# EAGLE library part PIC18F4620 (library My Library)
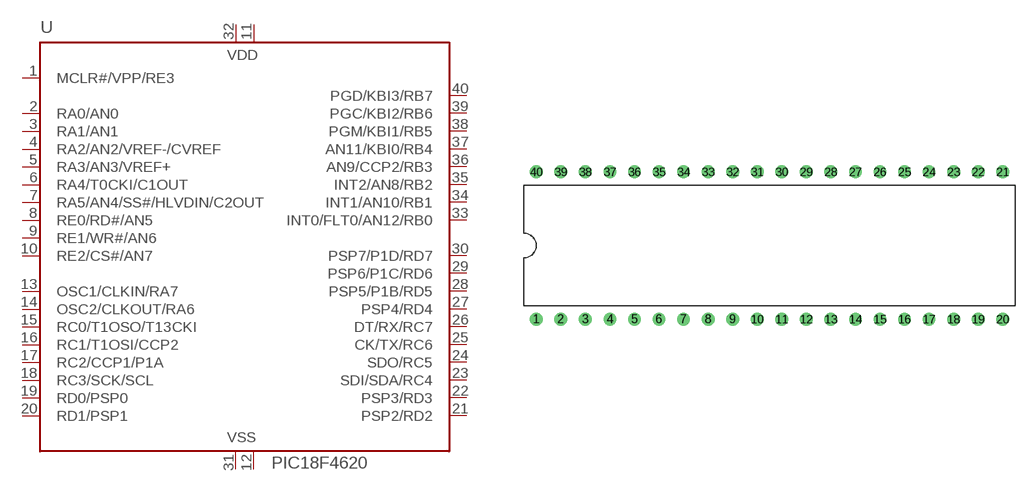
[diagram p4: symbol with the pads of DIP40; footprint DIP40]

Designator prefix -

## PIC18F4620  [DIP40]
1  MCLR#/VPP/RE3  in
2  RA0/AN0
3  RA1/AN1
4  RA2/AN2/VREF-/CVREF
5  RA3/AN3/VREF+
6  RA4/T0CKI/C1OUT
7  RA5/AN4/SS#/HLVDIN/C2OUT
8  RE0/RD#/AN5
9  RE1/WR#/AN6
10  RE2/CS#/AN7
11  VDD  pwr
12  VSS  pwr
13  OSC1/CLKIN/RA7  in
14  OSC2/CLKOUT/RA6  out
15  RC0/T1OSO/T13CKI
16  RC1/T1OSI/CCP2
17  RC2/CCP1/P1A
18  RC3/SCK/SCL
19  RD0/PSP0
20  RD1/PSP1
21  PSP2/RD2
22  PSP3/RD3
23  SDI/SDA/RC4
24  SDO/RC5
25  CK/TX/RC6
26  DT/RX/RC7
27  PSP4/RD4
28  PSP5/P1B/RD5
29  PSP6/P1C/RD6
30  PSP7/P1D/RD7
31  VSS  pwr
32  VDD  pwr
33  INT0/FLT0/AN12/RB0
34  INT1/AN10/RB1
35  INT2/AN8/RB2
36  AN9/CCP2/RB3
37  AN11/KBI0/RB4
38  PGM/KBI1/RB5
39  PGC/KBI2/RB6
40  PGD/KBI3/RB7

## Footprint DIP40 (pad centres in mm)
drill 0.813 round: 1 -22.86,-7.62; 2 -20.32,-7.62; 3 -17.78,-7.62; 4 -15.24,-7.62; 5 -12.7,-7.62; 6 -10.16,-7.62; 7 -7.62,-7.62; 8 -5.08,-7.62; 9 -2.54,-7.62; 10 0,-7.62; 11 2.54,-7.62; 12 5.08,-7.62; 13 7.62,-7.62; 14 10.16,-7.62; 15 12.7,-7.62; 16 15.24,-7.62; 17 17.78,-7.62; 18 20.32,-7.62; 19 22.86,-7.62; 20 25.4,-7.62; 21 25.4,7.62; 22 22.86,7.62; 23 20.32,7.62; 24 17.78,7.62; 25 15.24,7.62; 26 12.7,7.62; 27 10.16,7.62; 28 7.62,7.62; 29 5.08,7.62; 30 2.54,7.62; 31 0,7.62; 32 -2.54,7.62; 33 -5.08,7.62; 34 -7.62,7.62; 35 -10.16,7.62; 36 -12.7,7.62; 37 -15.24,7.62; 38 -17.78,7.62; 39 -20.32,7.62; 40 -22.86,7.62